# Altium schematic symbol library 2021-04-05_19-02-56.SchLib: 2 symbols
Pins are listed as number, name and electrical type; pins without a type are passive.

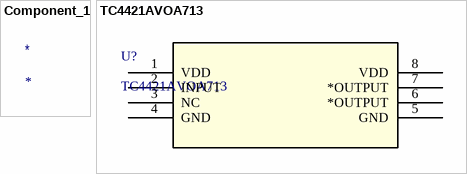
[diagram p0: symbols Component_1 to TC4421AVOA713]

## Component_1
designator *

## TC4421AVOA713
designator U?
No Description Available; Vendor: Microchip; Built_By: EMA_Jessica; SourceLibrary: Microchip_2019-08-23_9; Manufacturer_Part_Number: TC4421AVOA713; Copyright: Copyright (C) 2018 Accelerated Designs. All rights reserved; RefDes: RefDes; Type: DEV
footprint SOIC8-N_MC_MCH
pins: 1 VDD, 2 INPUT, 3 NC, 4 GND, 5 GND, 6 *OUTPUT, 7 *OUTPUT, 8 VDD